# EAGLE library part CPCI_B22- (library con-cpci)
Compact PCI B 22 Source: www.erni.com
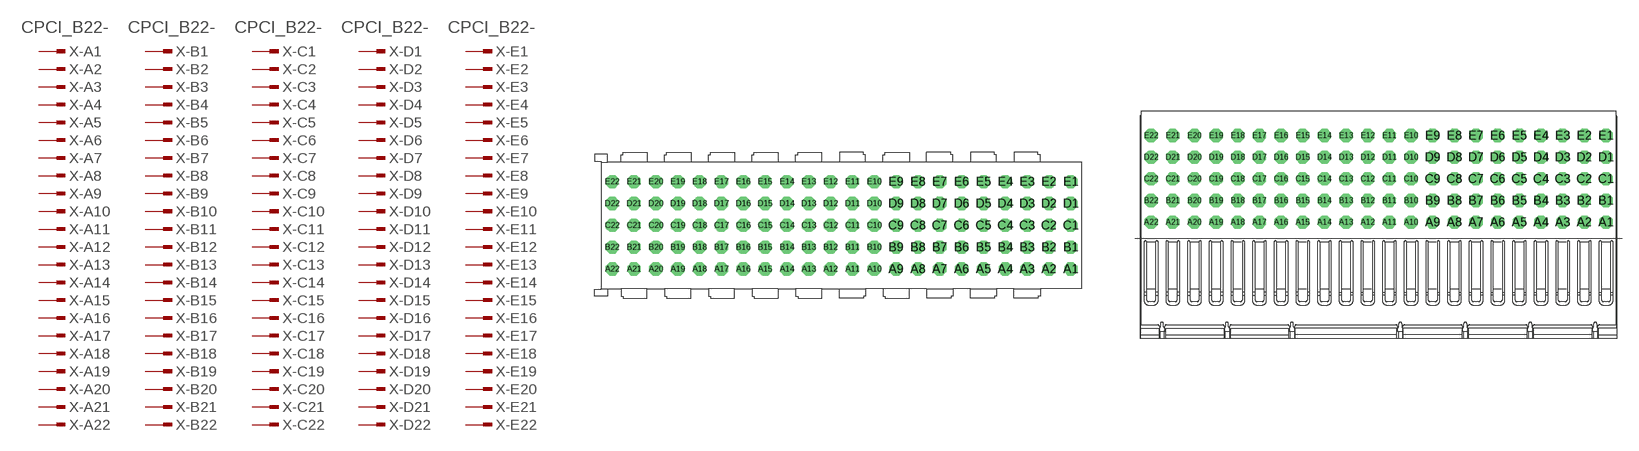
[diagram p4: symbol with the pads of 114134; footprints 114134, 064785]

Designator prefix X; gates -A1=PINV -B1=PINV -C1=PINV -D1=PINV -E1=PINV -A2=PIN -A3=PIN -A4=PIN -A5=PIN -A6=PIN -A7=PIN -A8=PIN -A9=PIN -A10=PIN -A11=PIN -A12=PIN -A13=PIN -A14=PIN -A15=PIN -A16=PIN -A17=PIN -A18=PIN -A19=PIN -A20=PIN -A21=PIN -A22=PIN -B2=PIN -B3=PIN -B4=PIN -B5=PIN -B6=PIN -B7=PIN -B8=PIN -B9=PIN -B10=PIN -B11=PIN -B12=PIN -B13=PIN -B14=PIN -B15=PIN -B16=PIN -B17=PIN -B18=PIN -B19=PIN -B20=PIN -B21=PIN -B22=PIN -C2=PIN -C3=PIN -C4=PIN -C5=PIN -C6=PIN -C7=PIN -C8=PIN -C9=PIN -C10=PIN -C11=PIN -C12=PIN -C13=PIN -C14=PIN -C15=PIN -C16=PIN -C17=PIN -C18=PIN -C19=PIN -C20=PIN -C21=PIN -C22=PIN -D2=PIN -D3=PIN -D4=PIN -D5=PIN -D6=PIN -D7=PIN -D8=PIN -D9=PIN -D10=PIN -D11=PIN -D12=PIN -D13=PIN -D14=PIN -D15=PIN -D16=PIN -D17=PIN -D18=PIN -D19=PIN -D20=PIN -D21=PIN -D22=PIN -E2=PIN -E3=PIN -E4=PIN -E5=PIN -E6=PIN -E7=PIN -E8=PIN -E9=PIN -E10=PIN -E11=PIN -E12=PIN -E13=PIN -E14=PIN -E15=PIN -E16=PIN -E17=PIN -E18=PIN -E19=PIN -E20=PIN -E21=PIN -E22=PIN

## CPCI_B22-114134  [114134]
A1  -A1:1  in
A2  -A2:1  in
A3  -A3:1  in
A4  -A4:1  in
A5  -A5:1  in
A6  -A6:1  in
A7  -A7:1  in
A8  -A8:1  in
A9  -A9:1  in
A10  -A10:1  in
A11  -A11:1  in
A12  -A12:1  in
A13  -A13:1  in
A14  -A14:1  in
A15  -A15:1  in
A16  -A16:1  in
A17  -A17:1  in
A18  -A18:1  in
A19  -A19:1  in
A20  -A20:1  in
A21  -A21:1  in
A22  -A22:1  in
B1  -B1:1  in
B2  -B2:1  in
B3  -B3:1  in
B4  -B4:1  in
B5  -B5:1  in
B6  -B6:1  in
B7  -B7:1  in
B8  -B8:1  in
B9  -B9:1  in
B10  -B10:1  in
B11  -B11:1  in
B12  -B12:1  in
B13  -B13:1  in
B14  -B14:1  in
B15  -B15:1  in
B16  -B16:1  in
B17  -B17:1  in
B18  -B18:1  in
B19  -B19:1  in
B20  -B20:1  in
B21  -B21:1  in
B22  -B22:1  in
C1  -C1:1  in
C2  -C2:1  in
C3  -C3:1  in
C4  -C4:1  in
C5  -C5:1  in
C6  -C6:1  in
C7  -C7:1  in
C8  -C8:1  in
C9  -C9:1  in
C10  -C10:1  in
C11  -C11:1  in
C12  -C12:1  in
C13  -C13:1  in
C14  -C14:1  in
C15  -C15:1  in
C16  -C16:1  in
C17  -C17:1  in
C18  -C18:1  in
C19  -C19:1  in
C20  -C20:1  in
C21  -C21:1  in
C22  -C22:1  in
D1  -D1:1  in
D2  -D2:1  in
D3  -D3:1  in
D4  -D4:1  in
D5  -D5:1  in
D6  -D6:1  in
D7  -D7:1  in
D8  -D8:1  in
D9  -D9:1  in
D10  -D10:1  in
D11  -D11:1  in
D12  -D12:1  in
D13  -D13:1  in
D14  -D14:1  in
D15  -D15:1  in
D16  -D16:1  in
D17  -D17:1  in
D18  -D18:1  in
D19  -D19:1  in
D20  -D20:1  in
D21  -D21:1  in
D22  -D22:1  in
E1  -E1:1  in
E2  -E2:1  in
E3  -E3:1  in
E4  -E4:1  in
E5  -E5:1  in
E6  -E6:1  in
E7  -E7:1  in
E8  -E8:1  in
E9  -E9:1  in
E10  -E10:1  in
E11  -E11:1  in
E12  -E12:1  in
E13  -E13:1  in
E14  -E14:1  in
E15  -E15:1  in
E16  -E16:1  in
E17  -E17:1  in
E18  -E18:1  in
E19  -E19:1  in
E20  -E20:1  in
E21  -E21:1  in
E22  -E22:1  in

## CPCI_B22-064785  [064785]
Pads as for 114134

## CPCI_B22-914797I  [914797I]
Pads as for 114134

## Footprint 114134 (pad centres in mm)
ERmet-FS Federleiste B22 / ERmet-Female Straight Type B22 Source: http://www.erni.com/DB/PDF-Drawing/ERmet/114134.pdf
drill 0.7 pad 1.016 octagon: A1 21,-5; A2 19,-5; A3 17,-5; A4 15,-5; A5 13,-5; A6 11,-5; A7 9,-5; A8 7,-5; A9 5,-5; A10 3,-5; A11 1,-5; A12 -1,-5; A13 -3,-5; A14 -5,-5; A15 -7,-5; A16 -9,-5; A17 -11,-5; A18 -13,-5; A19 -15,-5; A20 -17,-5; A21 -19,-5; A22 -21,-5; B1 21,-3; B2 19,-3; B3 17,-3; B4 15,-3; B5 13,-3; B6 11,-3; B7 9,-3; B8 7,-3; B9 5,-3; B10 3,-3; B11 1,-3; B12 -1,-3; B13 -3,-3; B14 -5,-3; B15 -7,-3; B16 -9,-3; B17 -11,-3; B18 -13,-3; B19 -15,-3; B20 -17,-3; B21 -19,-3; B22 -21,-3; C1 21,-1; C2 19,-1; C3 17,-1; C4 15,-1; C5 13,-1; C6 11,-1; C7 9,-1; C8 7,-1; C9 5,-1; C10 3,-1; C11 1,-1; C12 -1,-1; C13 -3,-1; C14 -5,-1; C15 -7,-1; C16 -9,-1; C17 -11,-1; C18 -13,-1; C19 -15,-1; C20 -17,-1; C21 -19,-1; C22 -21,-1; D1 21,1; D2 19,1; D3 17,1; D4 15,1; D5 13,1; D6 11,1; D7 9,1; D8 7,1; D9 5,1; D10 3,1; D11 1,1; D12 -1,1; D13 -3,1; D14 -5,1; D15 -7,1; D16 -9,1; D17 -11,1; D18 -13,1; D19 -15,1; D20 -17,1; D21 -19,1; D22 -21,1; E1 21,3; E2 19,3; E3 17,3; E4 15,3; E5 13,3; E6 11,3; E7 9,3; E8 7,3; E9 5,3; E10 3,3; E11 1,3; E12 -1,3; E13 -3,3; E14 -5,3; E15 -7,3; E16 -9,3; E17 -11,3; E18 -13,3; E19 -15,3; E20 -17,3; E21 -19,3; E22 -21,3

## Footprint 064785 (pad centres in mm)
ERmet Federleiste B 22 / ERmet Female Type B 22 Source: http://www.erni.com/DB/PDF-Drawing/ERmet/064785.pdf
drill 0.7 pad 1.016 octagon: A1 21,1.5; A2 19,1.5; A3 17,1.5; A4 15,1.5; A5 13,1.5; A6 11,1.5; A7 9,1.5; A8 7,1.5; A9 5,1.5; A10 3,1.5; A11 1,1.5; A12 -1,1.5; A13 -3,1.5; A14 -5,1.5; A15 -7,1.5; A16 -9,1.5; A17 -11,1.5; A18 -13,1.5; A19 -15,1.5; A20 -17,1.5; A21 -19,1.5; A22 -21,1.5; B1 21,3.5; B2 19,3.5; B3 17,3.5; B4 15,3.5; B5 13,3.5; B6 11,3.5; B7 9,3.5; B8 7,3.5; B9 5,3.5; B10 3,3.5; B11 1,3.5; B12 -1,3.5; B13 -3,3.5; B14 -5,3.5; B15 -7,3.5; B16 -9,3.5; B17 -11,3.5; B18 -13,3.5; B19 -15,3.5; B20 -17,3.5; B21 -19,3.5; B22 -21,3.5; C1 21,5.5; C2 19,5.5; C3 17,5.5; C4 15,5.5; C5 13,5.5; C6 11,5.5; C7 9,5.5; C8 7,5.5; C9 5,5.5; C10 3,5.5; C11 1,5.5; C12 -1,5.5; C13 -3,5.5; C14 -5,5.5; C15 -7,5.5; C16 -9,5.5; C17 -11,5.5; C18 -13,5.5; C19 -15,5.5; C20 -17,5.5; C21 -19,5.5; C22 -21,5.5; D1 21,7.5; D2 19,7.5; D3 17,7.5; D4 15,7.5; D5 13,7.5; D6 11,7.5; D7 9,7.5; D8 7,7.5; D9 5,7.5; D10 3,7.5; D11 1,7.5; D12 -1,7.5; D13 -3,7.5; D14 -5,7.5; D15 -7,7.5; D16 -9,7.5; D17 -11,7.5; D18 -13,7.5; D19 -15,7.5; D20 -17,7.5; D21 -19,7.5; D22 -21,7.5; E1 21,9.5; E2 19,9.5; E3 17,9.5; E4 15,9.5; E5 13,9.5; E6 11,9.5; E7 9,9.5; E8 7,9.5; E9 5,9.5; E10 3,9.5; E11 1,9.5; E12 -1,9.5; E13 -3,9.5; E14 -5,9.5; E15 -7,9.5; E16 -9,9.5; E17 -11,9.5; E18 -13,9.5; E19 -15,9.5; E20 -17,9.5; E21 -19,9.5; E22 -21,9.5

## Footprint 914797I (pad centres in mm)
ERmet Federleiste B 22 / ERmet Female Type B 22 Source: http://www.erni.com/DB/PDF-Drawing/ERmet/914797i.pdf
drill 0.7 pad 1.016 octagon: A1 11,-64; A2 9,-64; A3 7,-64; A4 5,-64; A5 3,-64; A6 1,-64; A7 -1,-64; A8 -3,-64; A9 -5,-64; A10 -7,-64; A11 -9,-64; A12 -11,-64; A13 -13,-64; A14 -15,-64; A15 -17,-64; A16 -19,-64; A17 -21,-64; A18 -23,-64; A19 -25,-64; A20 -27,-64; A21 -29,-64; A22 -31,-64; B1 11,-62; B2 9,-62; B3 7,-62; B4 5,-62; B5 3,-62; B6 1,-62; B7 -1,-62; B8 -3,-62; B9 -5,-62; B10 -7,-62; B11 -9,-62; B12 -11,-62; B13 -13,-62; B14 -15,-62; B15 -17,-62; B16 -19,-62; B17 -21,-62; B18 -23,-62; B19 -25,-62; B20 -27,-62; B21 -29,-62; B22 -31,-62; C1 11,-60; C2 9,-60; C3 7,-60; C4 5,-60; C5 3,-60; C6 1,-60; C7 -1,-60; C8 -3,-60; C9 -5,-60; C10 -7,-60; C11 -9,-60; C12 -11,-60; C13 -13,-60; C14 -15,-60; C15 -17,-60; C16 -19,-60; C17 -21,-60; C18 -23,-60; C19 -25,-60; C20 -27,-60; C21 -29,-60; C22 -31,-60; D1 11,-58; D2 9,-58; D3 7,-58; D4 5,-58; D5 3,-58; D6 1,-58; D7 -1,-58; D8 -3,-58; D9 -5,-58; D10 -7,-58; D11 -9,-58; D12 -11,-58; D13 -13,-58; D14 -15,-58; D15 -17,-58; D16 -19,-58; D17 -21,-58; D18 -23,-58; D19 -25,-58; D20 -27,-58; D21 -29,-58; D22 -31,-58; E1 11,-56; E2 9,-56; E3 7,-56; E4 5,-56; E5 3,-56; E6 1,-56; E7 -1,-56; E8 -3,-56; E9 -5,-56; E10 -7,-56; E11 -9,-56; E12 -11,-56; E13 -13,-56; E14 -15,-56; E15 -17,-56; E16 -19,-56; E17 -21,-56; E18 -23,-56; E19 -25,-56; E20 -27,-56; E21 -29,-56; E22 -31,-56